# Altium schematic symbol library SCH - DRIVER - LED - TI LP8545_RTW_24.SchLib: 1 symbol
Pins are listed as number, name and electrical type; pins without a type are passive.

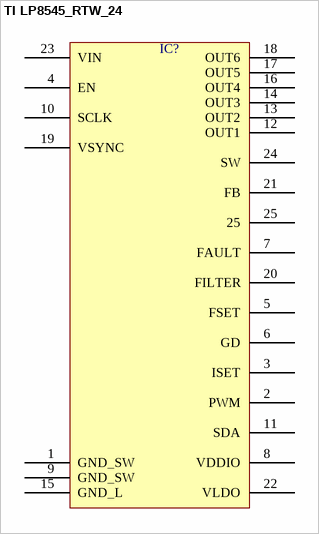
[diagram p0: symbol TI LP8545_RTW_24]

## TI LP8545_RTW_24
designator IC?  (value not drawn)
pins: 1 GND_SW, 2 PWM, 3 ISET, 4 EN, 5 FSET, 6 GD, 7 FAULT, 8 VDDIO, 9 GND_SW, 10 SCLK, 11 SDA, 12 OUT1, 13 OUT2, 14 OUT3, 15 GND_L, 16 OUT4, 17 OUT5, 18 OUT6, 19 VSYNC, 20 FILTER, 21 FB, 22 VLDO, 23 VIN, 24 SW, 25